# EAGLE library part LCA110_SSR (library CDC Library v130)
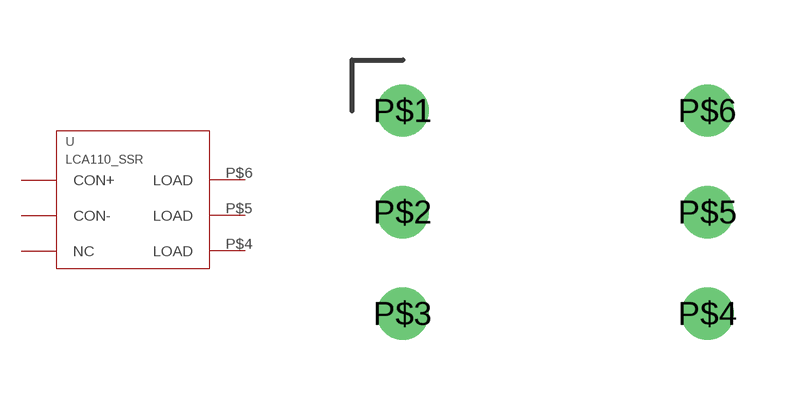
[diagram p5: symbol with the pads of LCA110_SSR_DIP6; footprint LCA110_SSR_DIP6]

Designator prefix -

## LCA110_SSR  [LCA110_SSR_DIP6]
P$1  CON+  oc
P$2  CON-
P$3  NC
P$4  LOAD
P$5  LOAD
P$6  LOAD

## Footprint LCA110_SSR_DIP6 (pad centres in mm)
drill 0.8: P$1 -3.81,2.54; P$2 -3.81,0; P$3 -3.81,-2.54; P$4 3.81,-2.54; P$5 3.81,0; P$6 3.81,2.54